# Altium footprint library Inductors-transformers.PcbLib: 104 footprints (part 3 of 7)
Each footprint in its own frame and in the unit in brackets; x right, y up, seen from the top. Pads: shape width x height; smd on the part's side, far side on the other; paste and mask are expansions set on the pad; w line width, h text height; cw(c..) or ccw(c..) is an arc to the next point about the centre after c.
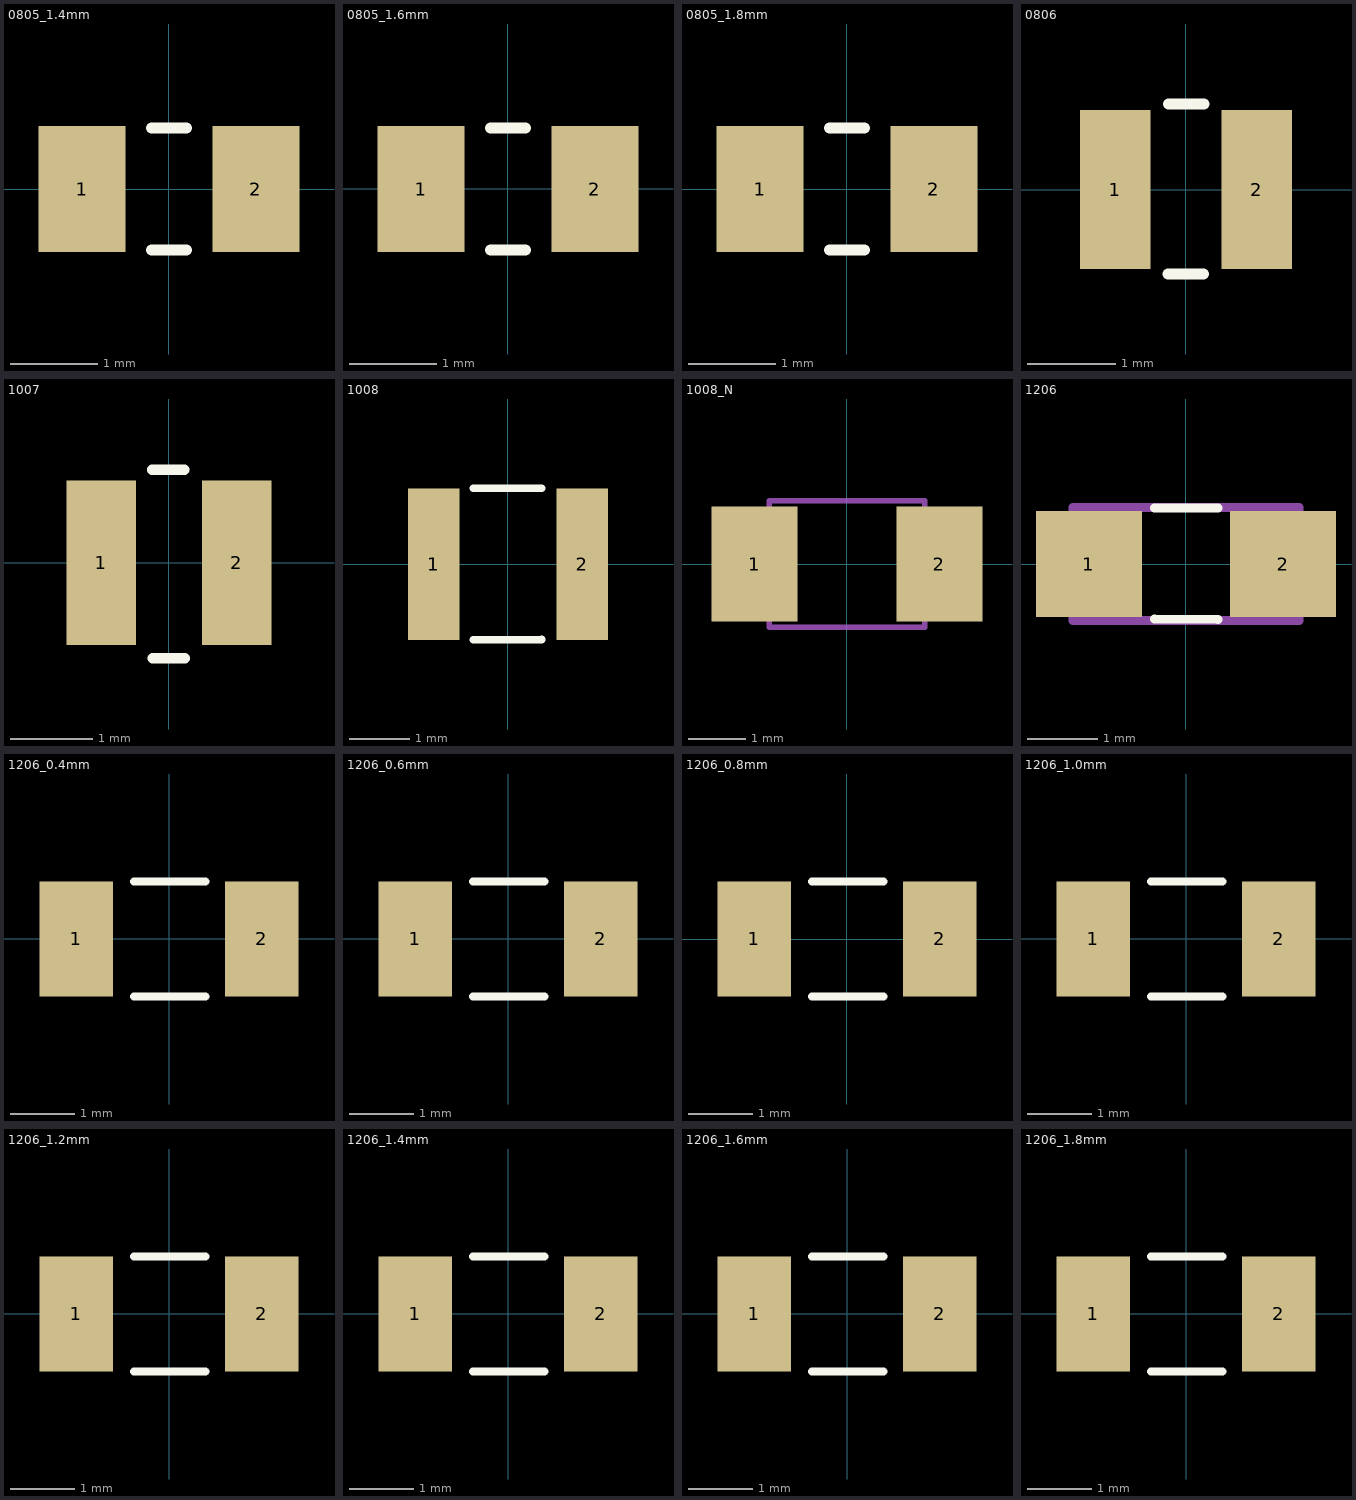
[diagram p2: the footprints below, top view; thin cyan lines are the x and y axes]

## 0805_1.4mm [mm] "2012 Metric/20230206/J-A.Sepulveda"
pads (2):
  rect 1x1.45 smd: 1(-1,0) 2(1,0)
Top Overlay:
  lines w0.127: -0.2,-0.7 0.2,-0.7 ; -0.2,0.7 0.2,0.7
3D body: height 1.5, standoff 0.1, extent -1.105,-0.724 1.105,0.724

## 0805_1.6mm [mm] "2012 Metric/20230206/J-A.Sepulveda"
pads (2):
  rect 1x1.45 smd: 1(-1,0) 2(1,0)
Top Overlay:
  lines w0.127: -0.2,-0.7 0.2,-0.7 ; -0.2,0.7 0.2,0.7
3D body: height 1.7, standoff 0.1, extent -1.105,-0.724 1.105,0.724

## 0805_1.8mm [mm] "2012 Metric/20230206/J-A.Sepulveda"
pads (2):
  rect 1x1.45 smd: 1(-1,0) 2(1,0)
Top Overlay:
  lines w0.127: -0.2,-0.7 0.2,-0.7 ; -0.2,0.7 0.2,0.7
3D body: height 1.9, standoff 0.1, extent -1.105,-0.724 1.105,0.724

## 0806 [mm] "2016 Metric / 20190225 / C-A.Serna.A"
pads (2):
  rect 0.8x1.8 smd: 1(-0.8,0) 2(0.8,0)
Top Overlay:
  lines w0.127: -0.2,-0.957 0.2,-0.957 ; -0.197,0.971 0.203,0.971
3D body: height 1.02, standoff 0.1, extent -1.087,-0.907 1.113,0.893

## 1007 [mm] "2518 Metric / 20210713 / N-A.Potosi"
height 1.02
pads (2):
  rect 0.85x2 smd: 1(-0.825,0) 2(0.825,0)
Top Overlay:
  lines w0.127: -0.202,1.132 0.188,1.131 ; -0.2,-1.158 0.19,-1.16
3D body: height 1.15, standoff 0, extent -1.249,-1.003 1.251,0.997

## 1008 [mm] "2520 Metric / 20190225 / C-A.Serna.A"
height 1.02
pads (2):
  rect 0.85x2.5 smd: 1(-1.225,0) 2(1.225,0)
Top Overlay:
  lines w0.127: -0.575,-1.249 0.559,-1.244 ; -0.575,1.251 0.556,1.253
3D body: height 1.02, standoff 0.1, extent -1.331,-1.099 1.37,1.101

## 1008_N [mm] "2520 Metric, 1008 / 20200717 / N-A.Potosi"
pads (2):
  rect 1.5x2 smd: 1(-1.606,0) 2(1.606,0)
Mechanical 1:
  lines w0.1: -1.35,-1.1 -1.35,1.1 1.35,1.1 1.35,-1.1 -1.35,-1.1
3D body: height 0.9, standoff 0, extent -1.35,-1.1 1.35,1.1

## 1206 [mm] "/20220628/F-A.Ospina"
pads (2):
  rect 1.5x1.5 smd: 1(-1.375,0) 2(1.375,0)
Top Overlay:
  lines w0.127: -0.448,-0.779 0.45,-0.788 ; -0.448,0.793 0.45,0.793
Mechanical 1:
  lines w0.127: -1.6,-0.8 1.6,-0.8 1.6,0.8 -1.6,0.8 -1.6,-0.8
3D body "LQH31CN100K03L.STEP": height 2.01, standoff 0.01, extent -1.618,-0.781 1.582,0.819

## 1206_0.4mm [mm] "3216 metric/20230303/J-A.Sepulveda"
pads (2):
  rect 1.15x1.8 smd: 1(-1.45,0) 2(1.45,0)
Top Overlay:
  lines w0.127: -0.55,-0.9 0.57,-0.9 ; -0.55,0.9 0.57,0.9
3D body: height 0.5, standoff 0.1, extent 0.95,-0.762 1.498,0.762
3D body: height 0.5, standoff 0.1, extent -0.95,-0.762 0.95,0.762
3D body: height 0.5, standoff 0.1, extent -1.55,-0.762 -0.95,0.762

## 1206_0.6mm [mm] "3216 metric/20230303/J-A.Sepulveda"
pads (2):
  rect 1.15x1.8 smd: 1(-1.45,0) 2(1.45,0)
Top Overlay:
  lines w0.127: -0.55,-0.9 0.57,-0.9 ; -0.55,0.9 0.57,0.9
3D body: height 0.7, standoff 0.1, extent 0.95,-0.762 1.498,0.762
3D body: height 0.7, standoff 0.1, extent -0.95,-0.762 0.95,0.762
3D body: height 0.7, standoff 0.1, extent -1.55,-0.762 -0.95,0.762

## 1206_0.8mm [mm] "3216 Metric/20230206/J-A.Sepulveda"
pads (2):
  rect 1.15x1.8 smd: 1(-1.45,0) 2(1.45,0)
Top Overlay:
  lines w0.127: -0.55,-0.9 0.57,-0.9 ; -0.55,0.9 0.57,0.9
3D body: height 0.9, standoff 0.1, extent -1.6,-0.8 1.6,0.8

## 1206_1.0mm [mm] "3216 Metric/20230206/J-A.Sepulveda"
pads (2):
  rect 1.15x1.8 smd: 1(-1.45,0) 2(1.45,0)
Top Overlay:
  lines w0.127: -0.55,-0.9 0.57,-0.9 ; -0.55,0.9 0.57,0.9
3D body: height 1.1, standoff 0.1, extent -1.6,-0.8 1.6,0.8

## 1206_1.2mm [mm] "3216 Metric/20230206/J-A.Sepulveda"
pads (2):
  rect 1.15x1.8 smd: 1(-1.45,0) 2(1.45,0)
Top Overlay:
  lines w0.127: -0.55,-0.9 0.57,-0.9 ; -0.55,0.9 0.57,0.9
3D body: height 1.3, standoff 0.1, extent -1.6,-0.8 1.6,0.8

## 1206_1.4mm [mm] "3216 Metric/20230206/J-A.Sepulveda"
pads (2):
  rect 1.15x1.8 smd: 1(-1.45,0) 2(1.45,0)
Top Overlay:
  lines w0.127: -0.55,-0.9 0.57,-0.9 ; -0.55,0.9 0.57,0.9
3D body: height 1.5, standoff 0.1, extent -1.6,-0.8 1.6,0.8

## 1206_1.6mm [mm] "3216 Metric/20230206/J-A.Sepulveda"
pads (2):
  rect 1.15x1.8 smd: 1(-1.45,0) 2(1.45,0)
Top Overlay:
  lines w0.127: -0.55,-0.9 0.57,-0.9 ; -0.55,0.9 0.57,0.9
3D body: height 1.7, standoff 0.1, extent -1.6,-0.8 1.6,0.8

## 1206_1.8mm [mm] "3216 Metric/20230206/J-A.Sepulveda"
pads (2):
  rect 1.15x1.8 smd: 1(-1.45,0) 2(1.45,0)
Top Overlay:
  lines w0.127: -0.55,-0.9 0.57,-0.9 ; -0.55,0.9 0.57,0.9
3D body: height 1.9, standoff 0.1, extent -1.6,-0.8 1.6,0.8